# EAGLE library part 6250XX21721_62503421721 (library con-wurth)
WR-BHD 2.00 mm Male Angled Box Header KIND PROPERTIES: Pitch 2 mm Gender:Male MATERIAL PROPERTIES: Insulator Material:PBT Insulator Flammability Rating UL94 V-0 Insulator Color:Black Contact Material :Copper Alloy Contact Plating :Gold Contact Type: Stamped GENERAL INFORMATION: Operating Temperature:-40 °C up to +125 °C Compliance:RoHS Working Voltage: 250 V (AC) Withstanding Voltage:500 V (AC) Contact Resistance: 20 mΩ Insulation Resistance:1000 MΩ PACKAGING PROPERTIES Packaging :Tray <https://www.we-online.de/katalog/media/o32929v209%20Family_WR-BHD_6250xx21721.jpg> Details see: https://www.we-online.de/katalog/en/em/BHD_2_00_MALE_ANGLED_BOX_HEADER_6250XX21721 Updated by Yingchun,Shan 2019-11-04 2019 (C) Würth Elektronik
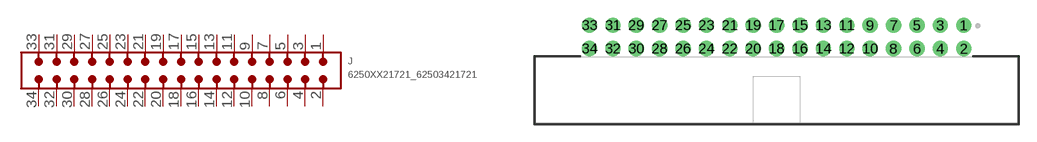
[diagram p133: symbol with the pads of 62503421721; footprint 62503421721]

Designator prefix J

## 6250XX21721_62503421721 (CONTACT-RESISTANCE: 20mOhm; DATASHEET-URL: https://www.we-online.com/redexpert/spec/62503421721?ae; GENDER: Male; IR: 2A; LENGTH: 41.25mm; MOUNT: THT; PACKAGING: Tray; PART-NUMBER: 62503421721; PINS: 34; PITCH: 2mm; TYPE: Angled; VALUE: 62503421721; WORKING-VOLTAGE: 250V(AC))  [62503421721]
1  1  pas
2  2  pas
3  3  pas
4  4  pas
5  5  pas
6  6  pas
7  7  pas
8  8  pas
9  9  pas
10  10  pas
11  11  pas
12  12  pas
13  13  pas
14  14  pas
15  15  pas
16  16  pas
17  17  pas
18  18  pas
19  19  pas
20  20  pas
21  21  pas
22  22  pas
23  23  pas
24  24  pas
25  25  pas
26  26  pas
27  27  pas
28  28  pas
29  29  pas
30  30  pas
31  31  pas
32  32  pas
33  33  pas
34  34  pas

## Footprint 62503421721 (pad centres in mm)
WR-BHD 2.00 mm Male Angled Box Header,34 pins
drill 0.8: 1 16,5.55; 2 16,3.55; 3 14,5.55; 4 14,3.55; 5 12,5.55; 6 12,3.55; 7 10,5.55; 8 10,3.55; 9 8,5.55; 10 8,3.55; 11 6,5.55; 12 6,3.55; 13 4,5.55; 14 4,3.55; 15 2,5.55; 16 2,3.55; 17 0,5.55; 18 0,3.55; 19 -2,5.55; 20 -2,3.55; 21 -4,5.55; 22 -4,3.55; 23 -6,5.55; 24 -6,3.55; 25 -8,5.55; 26 -8,3.55; 27 -10,5.55; 28 -10,3.55; 29 -12,5.55; 30 -12,3.55; 31 -14,5.55; 32 -14,3.55; 33 -16,5.55; 34 -16,3.55